# EAGLE library part LUMENIER_QUAD-NO-CUT (library AUX, Lumenier ESC)
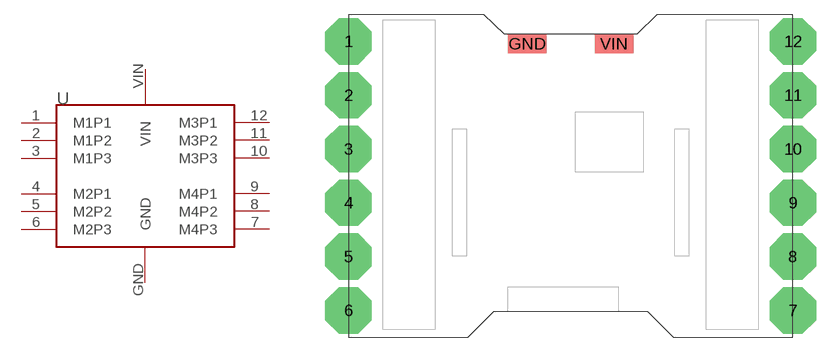
[diagram p1: symbol with the pads of LUMENIER_QUAD-NO-CUT; footprint LUMENIER_QUAD-NO-CUT]

Designator prefix -

## LUMENIER_QUAD-NO-CUT  [LUMENIER_QUAD-NO-CUT]
1  M1P1
2  M1P2
3  M1P3
4  M2P1
5  M2P2
6  M2P3
7  M4P3
8  M4P2
9  M4P1
10  M3P3
11  M3P2
12  M3P1
GND  GND
VIN  VIN

## Footprint LUMENIER_QUAD-NO-CUT (pad centres in mm)
drill 3.5 pad 4.8 octagon: 1 0,30.62; 2 0,25.05; 3 0,19.48; 4 0,13.92; 5 0,8.35; 6 0,2.78; 7 46,2.78; 8 46,8.35; 9 46,13.92; 10 46,19.48; 11 46,25.05; 12 46,30.62
smd 4 x 2: GND 18.51,30.37; VIN 27.49,30.37